# Altium schematic symbol library AD5422.SchLib: 1 symbol
Pins are listed as number, name and electrical type; pins without a type are passive.

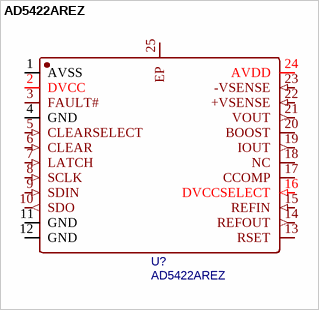
[diagram p0: symbol AD5422AREZ]

## AD5422AREZ
designator U?
16 位单通道串行输入内置电流源和电压输出DAC; spicePre: U
footprint TSSOP-24_L7.8-W4.4-P0.65-LS6.4-BL-EP-1
pins: 1 AVSS (power), 2 DVCC, 3 FAULT# (oc), 4 GND (power), 5 CLEARSELECT (in), 6 CLEAR (in), 7 LATCH (in), 8 SCLK (in), 9 SDIN (in), 10 SDO (out), 11 GND (power), 12 GND (power), 13 RSET, 14 REFOUT (out), 15 REFIN (in), 16 DVCCSELECT (in), 17 CCOMP, 18 NC, 19 IOUT (out), 20 BOOST, 21 VOUT (out), 22 +VSENSE (in), 23 -VSENSE (in), 24 AVDD (power), 25 EP (power)